# Altium schematic symbol library WCAP-HSAH.SchLib: 26 symbols
Pins are listed as number, name and electrical type; pins without a type are passive.

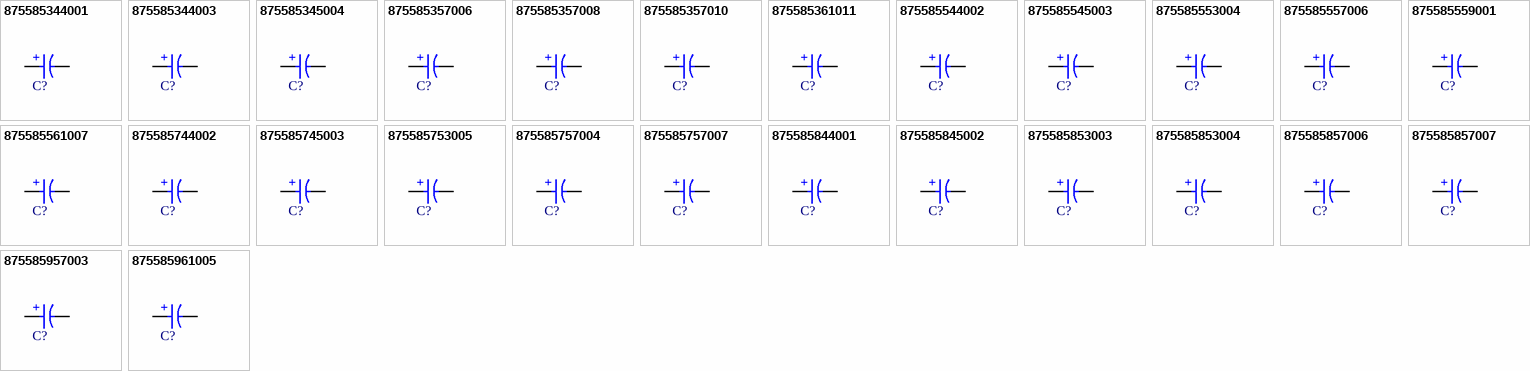
[diagram p0: symbols 875585344001 to 875585961005]

## 875585344001
designator C?, comment 100uF  (value not drawn)
WCAP-HSAH Aluminum Hybrid Polymer Capacitor, SMT, D6.3 x H5.8mm, 100uF, 16V; Manufacturer Part Number: 875585344001; Manufacturer: Wurth Elektronik; Dissipation Factor: 16%; Endurance: 4000h; ESR: 50mOhm; Leakage Current: 16uA; Ripple Current: 900mA; Category: Aluminum Hybrid Polymer Capacitors; Match Code: WCAP-HSAH; ComponentLink1Description: Website Link; ComponentLink1URL: https://www.we-online.com/redexpert/article/875585344001?ad; ComponentLink2Description: Datasheet Link; ComponentLink2URL: https://www.we-online.com/redexpert/spec/875585344001?ad; Mount: Surface Mount; Operating Temperature Max: 125°C; Operating Temperature Min: -55°C; Packaging: Tape and Reel; Height: 5.8mm; Diameter: 6.3mm; Capacitance: 100uF; Rated Voltage (DC): 16V
footprint WCAP-HSAH_D6.3H5.8
simulation model 875585344001_100uF
pins: 1 P, 2 N
text: +

## 875585344003
designator C?, comment 150uF  (value not drawn)
WCAP-HSAH Aluminum Hybrid Polymer Capacitor, SMT, D6.3 x H5.8mm, 150uF, 16V; Manufacturer Part Number: 875585344003; Manufacturer: Wurth Elektronik; Dissipation Factor: 16%; Endurance: 4000h; ESR: 50mOhm; Leakage Current: 24uA; Ripple Current: 900mA; Category: Aluminum Hybrid Polymer Capacitors; Match Code: WCAP-HSAH; ComponentLink1Description: Website Link; ComponentLink1URL: https://www.we-online.com/redexpert/article/875585344003?ad; ComponentLink2Description: Datasheet Link; ComponentLink2URL: https://www.we-online.com/redexpert/spec/875585344003?ad; Mount: Surface Mount; Operating Temperature Max: 125°C; Operating Temperature Min: -55°C; Packaging: Tape and Reel; Height: 5.8mm; Diameter: 6.3mm; Capacitance: 150uF; Rated Voltage (DC): 16V
footprint WCAP-HSAH_D6.3H5.8
simulation model 875585344003_150uF
pins: 1 P, 2 N
text: +

## 875585345004
designator C?, comment 220uF  (value not drawn)
WCAP-HSAH Aluminum Hybrid Polymer Capacitor, SMT, D6.3 x H7.7mm, 220uF, 16V; Manufacturer Part Number: 875585345004; Manufacturer: Wurth Elektronik; Dissipation Factor: 16%; Endurance: 4000h; ESR: 30mOhm; Leakage Current: 35.2uA; Ripple Current: 1400mA; Category: Aluminum Hybrid Polymer Capacitors; Match Code: WCAP-HSAH; ComponentLink1Description: Website Link; ComponentLink1URL: https://www.we-online.com/redexpert/article/875585345004?ad; ComponentLink2Description: Datasheet Link; ComponentLink2URL: https://www.we-online.com/redexpert/spec/875585345004?ad; Mount: Surface Mount; Operating Temperature Max: 125°C; Operating Temperature Min: -55°C; Packaging: Tape and Reel; Height: 7.7mm; Diameter: 6.3mm; Capacitance: 220uF; Rated Voltage (DC): 16V
footprint WCAP-HSAH_D6.3H7.7
simulation model 875585345004_220uF
pins: 1 P, 2 N
text: +

## 875585357006
designator C?, comment 330uF  (value not drawn)
WCAP-HSAH Aluminum Hybrid Polymer Capacitor, SMT, D10 x H10.5mm, 330uF, 16V; Manufacturer Part Number: 875585357006; Manufacturer: Wurth Elektronik; Dissipation Factor: 16%; Endurance: 4000h; ESR: 20mOhm; Leakage Current: 52.8uA; Ripple Current: 2000mA; Category: Aluminum Hybrid Polymer Capacitors; Match Code: WCAP-HSAH; ComponentLink1Description: Website Link; ComponentLink1URL: https://www.we-online.com/redexpert/article/875585357006?ad; ComponentLink2Description: Datasheet Link; ComponentLink2URL: https://www.we-online.com/redexpert/spec/875585357006?ad; Mount: Surface Mount; Operating Temperature Max: 125°C; Operating Temperature Min: -55°C; Packaging: Tape and Reel; Height: 10.5mm; Diameter: 10mm; Capacitance: 330uF; Rated Voltage (DC): 16V
footprint WCAP-HSAH_D10H10.5
simulation model 875585357006_330uF
pins: 1 P, 2 N
text: +

## 875585357008
designator C?, comment 470uF  (value not drawn)
WCAP-HSAH Aluminum Hybrid Polymer Capacitor, SMT, D10 x H10.5mm, 470uF, 16V; Manufacturer Part Number: 875585357008; Manufacturer: Wurth Elektronik; Dissipation Factor: 16%; Endurance: 4000h; ESR: 20mOhm; Leakage Current: 75.2uA; Ripple Current: 2000mA; Category: Aluminum Hybrid Polymer Capacitors; Match Code: WCAP-HSAH; ComponentLink1Description: Website Link; ComponentLink1URL: https://www.we-online.com/redexpert/article/875585357008?ad; ComponentLink2Description: Datasheet Link; ComponentLink2URL: https://www.we-online.com/redexpert/spec/875585357008?ad; Mount: Surface Mount; Operating Temperature Max: 125°C; Operating Temperature Min: -55°C; Packaging: Tape and Reel; Height: 10.5mm; Diameter: 10mm; Capacitance: 470uF; Rated Voltage (DC): 16V
footprint WCAP-HSAH_D10H10.5
simulation model 875585357008_470uF
pins: 1 P, 2 N
text: +

## 875585357010
designator C?, comment 560uF  (value not drawn)
WCAP-HSAH Aluminum Hybrid Polymer Capacitor, SMT, D10 x H10.5mm, 560uF, 16V; Manufacturer Part Number: 875585357010; Manufacturer: Wurth Elektronik; Dissipation Factor: 16%; Endurance: 4000h; ESR: 20mOhm; Leakage Current: 89.6uA; Ripple Current: 2000mA; Category: Aluminum Hybrid Polymer Capacitors; Match Code: WCAP-HSAH; ComponentLink1Description: Website Link; ComponentLink1URL: https://www.we-online.com/redexpert/article/875585357010?ad; ComponentLink2Description: Datasheet Link; ComponentLink2URL: https://www.we-online.com/redexpert/spec/875585357010?ad; Mount: Surface Mount; Operating Temperature Max: 125°C; Operating Temperature Min: -55°C; Packaging: Tape and Reel; Height: 10.5mm; Diameter: 10mm; Capacitance: 560uF; Rated Voltage (DC): 16V
footprint WCAP-HSAH_D10H10.5
simulation model 875585357010_560uF
pins: 1 P, 2 N
text: +

## 875585361011
designator C?, comment 820uF  (value not drawn)
WCAP-HSAH Aluminum Hybrid Polymer Capacitor, SMT, D10 x H12.4mm, 820uF, 16V; Manufacturer Part Number: 875585361011; Manufacturer: Wurth Elektronik; Dissipation Factor: 16%; Endurance: 4000h; ESR: 16mOhm; Leakage Current: 131.2uA; Ripple Current: 2260mA; Category: Aluminum Hybrid Polymer Capacitors; Match Code: WCAP-HSAH; ComponentLink1Description: Website Link; ComponentLink1URL: https://www.we-online.com/redexpert/article/875585361011?ad; ComponentLink2Description: Datasheet Link; ComponentLink2URL: https://www.we-online.com/redexpert/spec/875585361011?ad; Mount: Surface Mount; Operating Temperature Max: 125°C; Operating Temperature Min: -55°C; Packaging: Tape and Reel; Height: 12.4mm; Diameter: 10mm; Capacitance: 820uF; Rated Voltage (DC): 16V
footprint WCAP-HSAH_D10H12.4
simulation model 875585361011_820uF
pins: 1 P, 2 N
text: +

## 875585544002
designator C?, comment 56uF  (value not drawn)
WCAP-HSAH Aluminum Hybrid Polymer Capacitor, SMT, D6.3 x H5.8mm, 56uF, 25V; Manufacturer Part Number: 875585544002; Manufacturer: Wurth Elektronik; Dissipation Factor: 14%; Endurance: 4000h; ESR: 50mOhm; Leakage Current: 14uA; Ripple Current: 900mA; Category: Aluminum Hybrid Polymer Capacitors; Match Code: WCAP-HSAH; ComponentLink1Description: Website Link; ComponentLink1URL: https://www.we-online.com/redexpert/article/875585544002?ad; ComponentLink2Description: Datasheet Link; ComponentLink2URL: https://www.we-online.com/redexpert/spec/875585544002?ad; Mount: Surface Mount; Operating Temperature Max: 125°C; Operating Temperature Min: -55°C; Packaging: Tape and Reel; Height: 5.8mm; Diameter: 6.3mm; Capacitance: 56uF; Rated Voltage (DC): 25V
footprint WCAP-HSAH_D6.3H5.8
simulation model 875585544002_56uF
pins: 1 P, 2 N
text: +

## 875585545003
designator C?, comment 100uF  (value not drawn)
WCAP-HSAH Aluminum Hybrid Polymer Capacitor, SMT, D6.3 x H7.7mm, 100uF, 25V; Manufacturer Part Number: 875585545003; Manufacturer: Wurth Elektronik; Dissipation Factor: 14%; Endurance: 4000h; ESR: 30mOhm; Leakage Current: 25uA; Ripple Current: 1400mA; Category: Aluminum Hybrid Polymer Capacitors; Match Code: WCAP-HSAH; ComponentLink1Description: Website Link; ComponentLink1URL: https://www.we-online.com/redexpert/article/875585545003?ad; ComponentLink2Description: Datasheet Link; ComponentLink2URL: https://www.we-online.com/redexpert/spec/875585545003?ad; Mount: Surface Mount; Operating Temperature Max: 125°C; Operating Temperature Min: -55°C; Packaging: Tape and Reel; Height: 7.7mm; Diameter: 6.3mm; Capacitance: 100uF; Rated Voltage (DC): 25V
footprint WCAP-HSAH_D6.3H7.7
simulation model 875585545003_100uF
pins: 1 P, 2 N
text: +

## 875585553004
designator C?, comment 220uF  (value not drawn)
WCAP-HSAH Aluminum Hybrid Polymer Capacitor, SMT, D8 x H10.5mm, 220uF, 25V; Manufacturer Part Number: 875585553004; Manufacturer: Wurth Elektronik; Dissipation Factor: 14%; Endurance: 4000h; ESR: 27mOhm; Leakage Current: 55uA; Ripple Current: 1600mA; Category: Aluminum Hybrid Polymer Capacitors; Match Code: WCAP-HSAH; ComponentLink1Description: Website Link; ComponentLink1URL: https://www.we-online.com/redexpert/article/875585553004?ad; ComponentLink2Description: Datasheet Link; ComponentLink2URL: https://www.we-online.com/redexpert/spec/875585553004?ad; Mount: Surface Mount; Operating Temperature Max: 125°C; Operating Temperature Min: -55°C; Packaging: Tape and Reel; Height: 10.5mm; Diameter: 8mm; Capacitance: 220uF; Rated Voltage (DC): 25V
footprint WCAP-HSAH_D8H10.5
simulation model 875585553004_220uF
pins: 1 P, 2 N
text: +

## 875585557006
designator C?, comment 330uF  (value not drawn)
WCAP-HSAH Aluminum Hybrid Polymer Capacitor, SMT, D10 x H10.5mm, 330uF, 25V; Manufacturer Part Number: 875585557006; Manufacturer: Wurth Elektronik; Dissipation Factor: 14%; Endurance: 4000h; ESR: 20mOhm; Leakage Current: 82.5uA; Ripple Current: 2000mA; Category: Aluminum Hybrid Polymer Capacitors; Match Code: WCAP-HSAH; ComponentLink1Description: Website Link; ComponentLink1URL: https://www.we-online.com/redexpert/article/875585557006?ad; ComponentLink2Description: Datasheet Link; ComponentLink2URL: https://www.we-online.com/redexpert/spec/875585557006?ad; Mount: Surface Mount; Operating Temperature Max: 125°C; Operating Temperature Min: -55°C; Packaging: Tape and Reel; Height: 10.5mm; Diameter: 10mm; Capacitance: 330uF; Rated Voltage (DC): 25V
footprint WCAP-HSAH_D10H10.5
simulation model 875585557006_330uF
pins: 1 P, 2 N
text: +

## 875585559001
designator C?, comment 33uF  (value not drawn)
WCAP-HSAH Aluminum Hybrid Polymer Capacitor, SMT, D5 x H5.8mm, 33uF, 25V; Manufacturer Part Number: 875585559001; Manufacturer: Wurth Elektronik; Dissipation Factor: 14%; Endurance: 4000h; ESR: 80mOhm; Leakage Current: 8.3uA; Ripple Current: 550mA; Category: Aluminum Hybrid Polymer Capacitors; Match Code: WCAP-HSAH; ComponentLink1Description: Website Link; ComponentLink1URL: https://www.we-online.com/redexpert/article/875585559001?ad; ComponentLink2Description: Datasheet Link; ComponentLink2URL: https://www.we-online.com/redexpert/spec/875585559001?ad; Mount: Surface Mount; Operating Temperature Max: 125°C; Operating Temperature Min: -55°C; Packaging: Tape and Reel; Height: 5.8mm; Diameter: 5mm; Capacitance: 33uF; Rated Voltage (DC): 25V
footprint WCAP-HSAH_D5H5.8
pins: 1 P, 2 N
text: +

## 875585561007
designator C?, comment 470uF  (value not drawn)
WCAP-HSAH Aluminum Hybrid Polymer Capacitor, SMT, D10 x H12.4mm, 470uF, 25V; Manufacturer Part Number: 875585561007; Manufacturer: Wurth Elektronik; Dissipation Factor: 14%; Endurance: 4000h; ESR: 16mOhm; Leakage Current: 117.5uA; Ripple Current: 2260mA; Category: Aluminum Hybrid Polymer Capacitors; Match Code: WCAP-HSAH; ComponentLink1Description: Website Link; ComponentLink1URL: https://www.we-online.com/redexpert/article/875585561007?ad; ComponentLink2Description: Datasheet Link; ComponentLink2URL: https://www.we-online.com/redexpert/spec/875585561007?ad; Mount: Surface Mount; Operating Temperature Max: 125°C; Operating Temperature Min: -55°C; Packaging: Tape and Reel; Height: 12.4mm; Diameter: 10mm; Capacitance: 470uF; Rated Voltage (DC): 25V
footprint WCAP-HSAH_D10H12.4
simulation model 875585561007_470uF
pins: 1 P, 2 N
text: +

## 875585744002
designator C?, comment 22uF  (value not drawn)
WCAP-HSAH Aluminum Hybrid Polymer Capacitor, SMT, D6.3 x H5.8mm, 22uF, 50V; Manufacturer Part Number: 875585744002; Manufacturer: Wurth Elektronik; Dissipation Factor: 10%; Endurance: 4000h; ESR: 80mOhm; Leakage Current: 11uA; Ripple Current: 750mA; Category: Aluminum Hybrid Polymer Capacitors; Match Code: WCAP-HSAH; ComponentLink1Description: Website Link; ComponentLink1URL: https://www.we-online.com/redexpert/article/875585744002?ad; ComponentLink2Description: Datasheet Link; ComponentLink2URL: https://www.we-online.com/redexpert/spec/875585744002?ad; Mount: Surface Mount; Operating Temperature Max: 125°C; Operating Temperature Min: -55°C; Packaging: Tape and Reel; Height: 5.8mm; Diameter: 6.3mm; Capacitance: 22uF; Rated Voltage (DC): 50V
footprint WCAP-HSAH_D6.3H5.8
simulation model 875585744002_22uF
pins: 1 P, 2 N
text: +

## 875585745003
designator C?, comment 33uF  (value not drawn)
WCAP-HSAH Aluminum Hybrid Polymer Capacitor, SMT, D6.3 x H7.7mm, 33uF, 50V; Manufacturer Part Number: 875585745003; Manufacturer: Wurth Elektronik; Dissipation Factor: 10%; Endurance: 4000h; ESR: 40mOhm; Leakage Current: 16.5uA; Ripple Current: 1100mA; Category: Aluminum Hybrid Polymer Capacitors; Match Code: WCAP-HSAH; ComponentLink1Description: Website Link; ComponentLink1URL: https://www.we-online.com/redexpert/article/875585745003?ad; ComponentLink2Description: Datasheet Link; ComponentLink2URL: https://www.we-online.com/redexpert/spec/875585745003?ad; Mount: Surface Mount; Operating Temperature Max: 125°C; Operating Temperature Min: -55°C; Packaging: Tape and Reel; Height: 7.7mm; Diameter: 6.3mm; Capacitance: 33uF; Rated Voltage (DC): 50V
footprint WCAP-HSAH_D6.3H7.7
simulation model 875585745003_33uF
pins: 1 P, 2 N
text: +

## 875585753005
designator C?, comment 68uF  (value not drawn)
WCAP-HSAH Aluminum Hybrid Polymer Capacitor, SMT, D8 x H10.5mm, 68uF, 50V; Manufacturer Part Number: 875585753005; Manufacturer: Wurth Elektronik; Dissipation Factor: 10%; Endurance: 4000h; ESR: 30mOhm; Leakage Current: 34uA; Ripple Current: 1250mA; Category: Aluminum Hybrid Polymer Capacitors; Match Code: WCAP-HSAH; ComponentLink1Description: Website Link; ComponentLink1URL: https://www.we-online.com/redexpert/article/875585753005?ad; ComponentLink2Description: Datasheet Link; ComponentLink2URL: https://www.we-online.com/redexpert/spec/875585753005?ad; Mount: Surface Mount; Operating Temperature Max: 125°C; Operating Temperature Min: -55°C; Packaging: Tape and Reel; Height: 10.5mm; Diameter: 8mm; Capacitance: 68uF; Rated Voltage (DC): 50V
footprint WCAP-HSAH_D8H10.5
simulation model 875585753005_68uF
pins: 1 P, 2 N
text: +

## 875585757004
designator C?, comment 56uF  (value not drawn)
WCAP-HSAH Aluminum Hybrid Polymer Capacitor, SMT, D10 x H10.5mm, 56uF, 50V; Manufacturer Part Number: 875585757004; Manufacturer: Wurth Elektronik; Dissipation Factor: 10%; Endurance: 4000h; ESR: 28mOhm; Leakage Current: 28uA; Ripple Current: 1600mA; Category: Aluminum Hybrid Polymer Capacitors; Match Code: WCAP-HSAH; ComponentLink1Description: Website Link; ComponentLink1URL: https://www.we-online.com/redexpert/article/875585757004?ad; ComponentLink2Description: Datasheet Link; ComponentLink2URL: https://www.we-online.com/redexpert/spec/875585757004?ad; Mount: Surface Mount; Operating Temperature Max: 125°C; Operating Temperature Min: -55°C; Packaging: Tape and Reel; Height: 10.5mm; Diameter: 10mm; Capacitance: 56uF; Rated Voltage (DC): 50V
footprint WCAP-HSAH_D10H10.5
simulation model 875585757004_56uF
pins: 1 P, 2 N
text: +

## 875585757007
designator C?, comment 100uF  (value not drawn)
WCAP-HSAH Aluminum Hybrid Polymer Capacitor, SMT, D10 x H10.5mm, 100uF, 50V; Manufacturer Part Number: 875585757007; Manufacturer: Wurth Elektronik; Dissipation Factor: 10%; Endurance: 4000h; ESR: 28mOhm; Leakage Current: 50uA; Ripple Current: 1600mA; Category: Aluminum Hybrid Polymer Capacitors; Match Code: WCAP-HSAH; ComponentLink1Description: Website Link; ComponentLink1URL: https://www.we-online.com/redexpert/article/875585757007?ad; ComponentLink2Description: Datasheet Link; ComponentLink2URL: https://www.we-online.com/redexpert/spec/875585757007?ad; Mount: Surface Mount; Operating Temperature Max: 125°C; Operating Temperature Min: -55°C; Packaging: Tape and Reel; Height: 10.5mm; Diameter: 10mm; Capacitance: 100uF; Rated Voltage (DC): 50V
footprint WCAP-HSAH_D10H10.5
simulation model 875585757007_100uF
pins: 1 P, 2 N
text: +

## 875585844001
designator C?, comment 10uF  (value not drawn)
WCAP-HSAH Aluminum Hybrid Polymer Capacitor, SMT, D6.3 x H5.8mm, 10uF, 63V; Manufacturer Part Number: 875585844001; Manufacturer: Wurth Elektronik; Dissipation Factor: 8%; Endurance: 4000h; ESR: 120mOhm; Leakage Current: 6.3uA; Ripple Current: 700mA; Category: Aluminum Hybrid Polymer Capacitors; Match Code: WCAP-HSAH; ComponentLink1Description: Website Link; ComponentLink1URL: https://www.we-online.com/redexpert/article/875585844001?ad; ComponentLink2Description: Datasheet Link; ComponentLink2URL: https://www.we-online.com/redexpert/spec/875585844001?ad; Mount: Surface Mount; Operating Temperature Max: 125°C; Operating Temperature Min: -55°C; Packaging: Tape and Reel; Height: 5.8mm; Diameter: 6.3mm; Capacitance: 10uF; Rated Voltage (DC): 63V
footprint WCAP-HSAH_D6.3H5.8
simulation model 875585844001_10uF
pins: 1 P, 2 N
text: +

## 875585845002
designator C?, comment 22uF  (value not drawn)
WCAP-HSAH Aluminum Hybrid Polymer Capacitor, SMT, D6.3 x H7.7mm, 22uF, 63V; Manufacturer Part Number: 875585845002; Manufacturer: Wurth Elektronik; Dissipation Factor: 8%; Endurance: 4000h; ESR: 80mOhm; Leakage Current: 13.9uA; Ripple Current: 900mA; Category: Aluminum Hybrid Polymer Capacitors; Match Code: WCAP-HSAH; ComponentLink1Description: Website Link; ComponentLink1URL: https://www.we-online.com/redexpert/article/875585845002?ad; ComponentLink2Description: Datasheet Link; ComponentLink2URL: https://www.we-online.com/redexpert/spec/875585845002?ad; Mount: Surface Mount; Operating Temperature Max: 125°C; Operating Temperature Min: -55°C; Packaging: Tape and Reel; Height: 7.7mm; Diameter: 6.3mm; Capacitance: 22uF; Rated Voltage (DC): 63V
footprint WCAP-HSAH_D6.3H7.7
simulation model 875585845002_22uF
pins: 1 P, 2 N
text: +

## 875585853003
designator C?, comment 33uF  (value not drawn)
WCAP-HSAH Aluminum Hybrid Polymer Capacitor, SMT, D8 x H10.5mm, 33uF, 63V; Manufacturer Part Number: 875585853003; Manufacturer: Wurth Elektronik; Dissipation Factor: 8%; Endurance: 4000h; ESR: 40mOhm; Leakage Current: 20.8uA; Ripple Current: 1100mA; Category: Aluminum Hybrid Polymer Capacitors; Match Code: WCAP-HSAH; ComponentLink1Description: Website Link; ComponentLink1URL: https://www.we-online.com/redexpert/article/875585853003?ad; ComponentLink2Description: Datasheet Link; ComponentLink2URL: https://www.we-online.com/redexpert/spec/875585853003?ad; Mount: Surface Mount; Operating Temperature Max: 125°C; Operating Temperature Min: -55°C; Packaging: Tape and Reel; Height: 10.5mm; Diameter: 8mm; Capacitance: 33uF; Rated Voltage (DC): 63V
footprint WCAP-HSAH_D8H10.5
simulation model 875585853003_33uF
pins: 1 P, 2 N
text: +

## 875585853004
designator C?, comment 47uF  (value not drawn)
WCAP-HSAH Aluminum Hybrid Polymer Capacitor, SMT, D8 x H10.5mm, 47uF, 63V; Manufacturer Part Number: 875585853004; Manufacturer: Wurth Elektronik; Dissipation Factor: 8%; Endurance: 4000h; ESR: 40mOhm; Leakage Current: 29.6uA; Ripple Current: 1100mA; Category: Aluminum Hybrid Polymer Capacitors; Match Code: WCAP-HSAH; ComponentLink1Description: Website Link; ComponentLink1URL: https://www.we-online.com/redexpert/article/875585853004?ad; ComponentLink2Description: Datasheet Link; ComponentLink2URL: https://www.we-online.com/redexpert/spec/875585853004?ad; Mount: Surface Mount; Operating Temperature Max: 125°C; Operating Temperature Min: -55°C; Packaging: Tape and Reel; Height: 10.5mm; Diameter: 8mm; Capacitance: 47uF; Rated Voltage (DC): 63V
footprint WCAP-HSAH_D8H10.5
simulation model 875585853004_47uF
pins: 1 P, 2 N
text: +

## 875585857006
designator C?, comment 56uF  (value not drawn)
WCAP-HSAH Aluminum Hybrid Polymer Capacitor, SMT, D10 x H10.5mm, 56uF, 63V; Manufacturer Part Number: 875585857006; Manufacturer: Wurth Elektronik; Dissipation Factor: 8%; Endurance: 4000h; ESR: 30mOhm; Leakage Current: 35.3uA; Ripple Current: 1400mA; Category: Aluminum Hybrid Polymer Capacitors; Match Code: WCAP-HSAH; ComponentLink1Description: Website Link; ComponentLink1URL: https://www.we-online.com/redexpert/article/875585857006?ad; ComponentLink2Description: Datasheet Link; ComponentLink2URL: https://www.we-online.com/redexpert/spec/875585857006?ad; Mount: Surface Mount; Operating Temperature Max: 125°C; Operating Temperature Min: -55°C; Packaging: Tape and Reel; Height: 10.5mm; Diameter: 10mm; Capacitance: 56uF; Rated Voltage (DC): 63V
footprint WCAP-HSAH_D10H10.5
simulation model 875585857006_56uF
pins: 1 P, 2 N
text: +

## 875585857007
designator C?, comment 68uF  (value not drawn)
WCAP-HSAH Aluminum Hybrid Polymer Capacitor, SMT, D10 x H10.5mm, 68uF, 63V; Manufacturer Part Number: 875585857007; Manufacturer: Wurth Elektronik; Dissipation Factor: 8%; Endurance: 4000h; ESR: 30mOhm; Leakage Current: 42.8uA; Ripple Current: 1400mA; Category: Aluminum Hybrid Polymer Capacitors; Match Code: WCAP-HSAH; ComponentLink1Description: Website Link; ComponentLink1URL: https://www.we-online.com/redexpert/article/875585857007?ad; ComponentLink2Description: Datasheet Link; ComponentLink2URL: https://www.we-online.com/redexpert/spec/875585857007?ad; Mount: Surface Mount; Operating Temperature Max: 125°C; Operating Temperature Min: -55°C; Packaging: Tape and Reel; Height: 10.5mm; Diameter: 10mm; Capacitance: 68uF; Rated Voltage (DC): 63V
footprint WCAP-HSAH_D10H10.5
simulation model 875585857007_68uF
pins: 1 P, 2 N
text: +

## 875585957003
designator C?, comment 22uF  (value not drawn)
WCAP-HSAH Aluminum Hybrid Polymer Capacitor, SMT, D10 x H10.5mm, 22uF, 100V; Manufacturer Part Number: 875585957003; Manufacturer: Wurth Elektronik; Dissipation Factor: 8%; Endurance: 4000h; ESR: 45mOhm; Leakage Current: 22uA; Ripple Current: 1200mA; Category: Aluminum Hybrid Polymer Capacitors; Match Code: WCAP-HSAH; ComponentLink1Description: Website Link; ComponentLink1URL: https://www.we-online.com/redexpert/article/875585957003?ad; ComponentLink2Description: Datasheet Link; ComponentLink2URL: https://www.we-online.com/redexpert/spec/875585957003?ad; Mount: Surface Mount; Operating Temperature Max: 125°C; Operating Temperature Min: -55°C; Packaging: Tape and Reel; Height: 10.5mm; Diameter: 10mm; Capacitance: 22uF; Rated Voltage (DC): 100V
footprint WCAP-HSAH_D10H10.5
simulation model 875585957003_22uF
pins: 1 P, 2 N
text: +

## 875585961005
designator C?, comment 33uF  (value not drawn)
WCAP-HSAH Aluminum Hybrid Polymer Capacitor, SMT, D10 x H12.4mm, 33uF, 100V; Manufacturer Part Number: 875585961005; Manufacturer: Wurth Elektronik; Dissipation Factor: 8%; Endurance: 4000h; ESR: 40mOhm; Leakage Current: 33uA; Ripple Current: 1360mA; Category: Aluminum Hybrid Polymer Capacitors; Match Code: WCAP-HSAH; ComponentLink1Description: Website Link; ComponentLink1URL: https://www.we-online.com/redexpert/article/875585961005?ad; ComponentLink2Description: Datasheet Link; ComponentLink2URL: https://www.we-online.com/redexpert/spec/875585961005?ad; Mount: Surface Mount; Operating Temperature Max: 125°C; Operating Temperature Min: -55°C; Packaging: Tape and Reel; Height: 12.4mm; Diameter: 10mm; Capacitance: 33uF; Rated Voltage (DC): 100V
footprint WCAP-HSAH_D10H12.4
simulation model 875585961005_33uF
pins: 1 P, 2 N
text: +